# EAGLE library part DDS,AD9914(3.5GSPS) (library QuantumOptics)
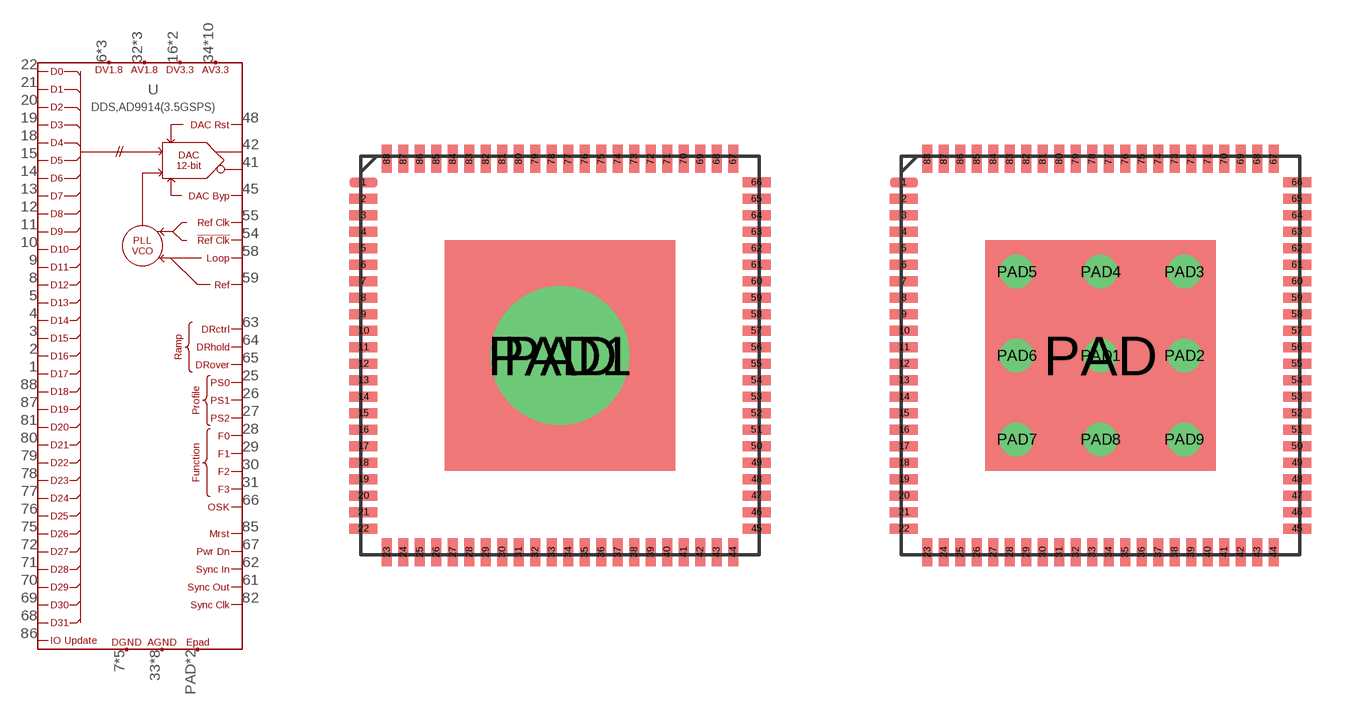
[diagram p221: symbol with the pads of LFCSP-88(HAND_ASSY); footprints LFCSP-88(HAND_ASSY), LFCSP-88(FOR_PICK_AND_PLACE)]

Designator prefix U

## DDS,AD9914(3.5GSPS)-LFCSP88(HAND_ASSY)  [LFCSP-88(HAND_ASSY)]
1  D17  in
2  D16  in
3  D15  in
4  D14  in
5  D13  in
6  DVDD1.8  pwr
7  DGND  pwr
8  D12  in
9  D11  in
10  D10  in
11  D9  in
12  D8  in
13  D7  in
14  D6  in
15  D5  in
16  DVIO3.3  pwr
17  DGND  pwr
18  D4  in
19  D3  in
20  D2  in
21  D1  in
22  D0  in
23  DVDD1.8  pwr
24  DGND  pwr
25  PS0  in
26  PS1  in
27  PS2  in
28  F0  in
29  F1  in
30  F2  in
31  F3  in
32  AVDD1.8  pwr
33  AGND  pwr
34  AVDD3.3  pwr
35  AGND  pwr
36  AVDD3.3  pwr
37  AGND  pwr
38  AGND  pwr
39  AVDD3.3  pwr
40  AVDD3.3  pwr
41  !AOUT  out
42  AOUT  in
43  AVDD3.3  pwr
44  AGND  pwr
45  DAC_BP  in
46  AGND  pwr
47  AVDD3.3  pwr
48  DAC_RST  in
49  AGND  pwr
50  AVDD3.3  pwr
51  AGND  pwr
52  AVDD3.3  pwr
53  AVDD3.3  pwr
54  !REFCLK  in
55  REFCLK  in
56  AVDD1.8  pwr
57  AVDD1.8  pwr
58  LOOP_FILTER  in
59  REF  in
60  AVDD3.3  pwr
61  SYNC_OUT  out
62  SYNC_IN  in
63  DRCTRL  in
64  DRHOLD  in
65  DROVER  out
66  OSK  in
67  PWR_DN  in
68  D31  in
69  D30  in
70  D29  in
71  D28  in
72  D27  in
73  DVDD1.8  pwr
74  DGND  pwr
75  D26  in
76  D25  in
77  D24  in
78  D23  in
79  D22  in
80  D21  in
81  D20  in
82  SYNC_CLK  out
83  DVIO3.3  pwr
84  DGND  pwr
85  MRST  in
86  IO_UPDATE  in
87  D19  in
88  D18  in
PAD  EPAD  pwr
PAD1  EPAD  pwr

## DDS,AD9914(3.5GSPS)-LFCSP88(PICK_PLACE)  [LFCSP-88(FOR_PICK_AND_PLACE)]
1  D17  in
2  D16  in
3  D15  in
4  D14  in
5  D13  in
6  DVDD1.8  pwr
7  DGND  pwr
8  D12  in
9  D11  in
10  D10  in
11  D9  in
12  D8  in
13  D7  in
14  D6  in
15  D5  in
16  DVIO3.3  pwr
17  DGND  pwr
18  D4  in
19  D3  in
20  D2  in
21  D1  in
22  D0  in
23  DVDD1.8  pwr
24  DGND  pwr
25  PS0  in
26  PS1  in
27  PS2  in
28  F0  in
29  F1  in
30  F2  in
31  F3  in
32  AVDD1.8  pwr
33  AGND  pwr
34  AVDD3.3  pwr
35  AGND  pwr
36  AVDD3.3  pwr
37  AGND  pwr
38  AGND  pwr
39  AVDD3.3  pwr
40  AVDD3.3  pwr
41  !AOUT  out
42  AOUT  in
43  AVDD3.3  pwr
44  AGND  pwr
45  DAC_BP  in
46  AGND  pwr
47  AVDD3.3  pwr
48  DAC_RST  in
49  AGND  pwr
50  AVDD3.3  pwr
51  AGND  pwr
52  AVDD3.3  pwr
53  AVDD3.3  pwr
54  !REFCLK  in
55  REFCLK  in
56  AVDD1.8  pwr
57  AVDD1.8  pwr
58  LOOP_FILTER  in
59  REF  in
60  AVDD3.3  pwr
61  SYNC_OUT  out
62  SYNC_IN  in
63  DRCTRL  in
64  DRHOLD  in
65  DROVER  out
66  OSK  in
67  PWR_DN  in
68  D31  in
69  D30  in
70  D29  in
71  D28  in
72  D27  in
73  DVDD1.8  pwr
74  DGND  pwr
75  D26  in
76  D25  in
77  D24  in
78  D23  in
79  D22  in
80  D21  in
81  D20  in
82  SYNC_CLK  out
83  DVIO3.3  pwr
84  DGND  pwr
85  MRST  in
86  IO_UPDATE  in
87  D19  in
88  D18  in
PAD  EPAD  pwr
PAD1  EPAD  pwr
PAD2  EPAD  pwr
PAD3  EPAD  pwr
PAD4  EPAD  pwr
PAD5  EPAD  pwr
PAD6  EPAD  pwr
PAD7  EPAD  pwr
PAD8  EPAD  pwr
PAD9  EPAD  pwr

## Footprint LFCSP-88(HAND_ASSY) (pad centres in mm)
LFCSP-88, for hand soldering, with one honking big hole on the Epad and no solder cream.
smd 0.85 x 0.3: 1 -5.96,5.25; 2 -5.96,4.75; 3 -5.96,4.25; 4 -5.96,3.75; 5 -5.96,3.25; 6 -5.96,2.75; 7 -5.96,2.25; 8 -5.96,1.75; 9 -5.96,1.25; 10 -5.96,0.75; 11 -5.96,0.25; 12 -5.96,-0.25; 13 -5.96,-0.75; 14 -5.96,-1.25; 15 -5.96,-1.75; 16 -5.96,-2.25; 17 -5.96,-2.75; 18 -5.96,-3.25; 19 -5.96,-3.75; 20 -5.96,-4.25; 21 -5.96,-4.75; 22 -5.96,-5.25; 45 5.96,-5.25; 46 5.96,-4.75; 47 5.96,-4.25; 48 5.96,-3.75; 49 5.96,-3.25; 50 5.96,-2.75; 51 5.96,-2.25; 52 5.96,-1.75; 53 5.96,-1.25; 54 5.96,-0.75; 55 5.96,-0.25; 56 5.96,0.25; 57 5.96,0.75; 58 5.96,1.25; 59 5.96,1.75; 60 5.96,2.25; 61 5.96,2.75; 62 5.96,3.25; 63 5.96,3.75; 64 5.96,4.25; 65 5.96,4.75; 66 5.96,5.25
smd 0.3 x 0.85: 23 -5.25,-5.96; 24 -4.75,-5.96; 25 -4.25,-5.96; 26 -3.75,-5.96; 27 -3.25,-5.96; 28 -2.75,-5.96; 29 -2.25,-5.96; 30 -1.75,-5.96; 31 -1.25,-5.96; 32 -0.75,-5.96; 33 -0.25,-5.96; 34 0.25,-5.96; 35 0.75,-5.96; 36 1.25,-5.96; 37 1.75,-5.96; 38 2.25,-5.96; 39 2.75,-5.96; 40 3.25,-5.96; 41 3.75,-5.96; 42 4.25,-5.96; 43 4.75,-5.96; 44 5.25,-5.96; 67 5.25,5.96; 68 4.75,5.96; 69 4.25,5.96; 70 3.75,5.96; 71 3.25,5.96; 72 2.75,5.96; 73 2.25,5.96; 74 1.75,5.96; 75 1.25,5.96; 76 0.75,5.96; 77 0.25,5.96; 78 -0.25,5.96; 79 -0.75,5.96; 80 -1.25,5.96; 81 -1.75,5.96; 82 -2.25,5.96; 83 -2.75,5.96; 84 -3.25,5.96; 85 -3.75,5.96; 86 -4.25,5.96; 87 -4.75,5.96; 88 -5.25,5.96
smd 7 x 7: PAD 0,0
drill 3.175: PAD1 0,0

## Footprint LFCSP-88(FOR_PICK_AND_PLACE) (pad centres in mm)
LFCSP-88, for pick & place and reflow, with solder cream and multiple small vias on epad.
smd 0.85 x 0.3: 1 -5.96,5.25; 2 -5.96,4.75; 3 -5.96,4.25; 4 -5.96,3.75; 5 -5.96,3.25; 6 -5.96,2.75; 7 -5.96,2.25; 8 -5.96,1.75; 9 -5.96,1.25; 10 -5.96,0.75; 11 -5.96,0.25; 12 -5.96,-0.25; 13 -5.96,-0.75; 14 -5.96,-1.25; 15 -5.96,-1.75; 16 -5.96,-2.25; 17 -5.96,-2.75; 18 -5.96,-3.25; 19 -5.96,-3.75; 20 -5.96,-4.25; 21 -5.96,-4.75; 22 -5.96,-5.25; 45 5.96,-5.25; 46 5.96,-4.75; 47 5.96,-4.25; 48 5.96,-3.75; 49 5.96,-3.25; 50 5.96,-2.75; 51 5.96,-2.25; 52 5.96,-1.75; 53 5.96,-1.25; 54 5.96,-0.75; 55 5.96,-0.25; 56 5.96,0.25; 57 5.96,0.75; 58 5.96,1.25; 59 5.96,1.75; 60 5.96,2.25; 61 5.96,2.75; 62 5.96,3.25; 63 5.96,3.75; 64 5.96,4.25; 65 5.96,4.75; 66 5.96,5.25
smd 0.3 x 0.85: 23 -5.25,-5.96; 24 -4.75,-5.96; 25 -4.25,-5.96; 26 -3.75,-5.96; 27 -3.25,-5.96; 28 -2.75,-5.96; 29 -2.25,-5.96; 30 -1.75,-5.96; 31 -1.25,-5.96; 32 -0.75,-5.96; 33 -0.25,-5.96; 34 0.25,-5.96; 35 0.75,-5.96; 36 1.25,-5.96; 37 1.75,-5.96; 38 2.25,-5.96; 39 2.75,-5.96; 40 3.25,-5.96; 41 3.75,-5.96; 42 4.25,-5.96; 43 4.75,-5.96; 44 5.25,-5.96; 67 5.25,5.96; 68 4.75,5.96; 69 4.25,5.96; 70 3.75,5.96; 71 3.25,5.96; 72 2.75,5.96; 73 2.25,5.96; 74 1.75,5.96; 75 1.25,5.96; 76 0.75,5.96; 77 0.25,5.96; 78 -0.25,5.96; 79 -0.75,5.96; 80 -1.25,5.96; 81 -1.75,5.96; 82 -2.25,5.96; 83 -2.75,5.96; 84 -3.25,5.96; 85 -3.75,5.96; 86 -4.25,5.96; 87 -4.75,5.96; 88 -5.25,5.96
smd 7 x 7: PAD 0,0
drill 0.508: PAD1 0,0; PAD2 2.54,0; PAD3 2.54,2.54; PAD4 0,2.54; PAD5 -2.54,2.54; PAD6 -2.54,0; PAD7 -2.54,-2.54; PAD8 0,-2.54; PAD9 2.54,-2.54